# EAGLE library part STM32F405OG-LQFP64 (library RoboJackets-RF)
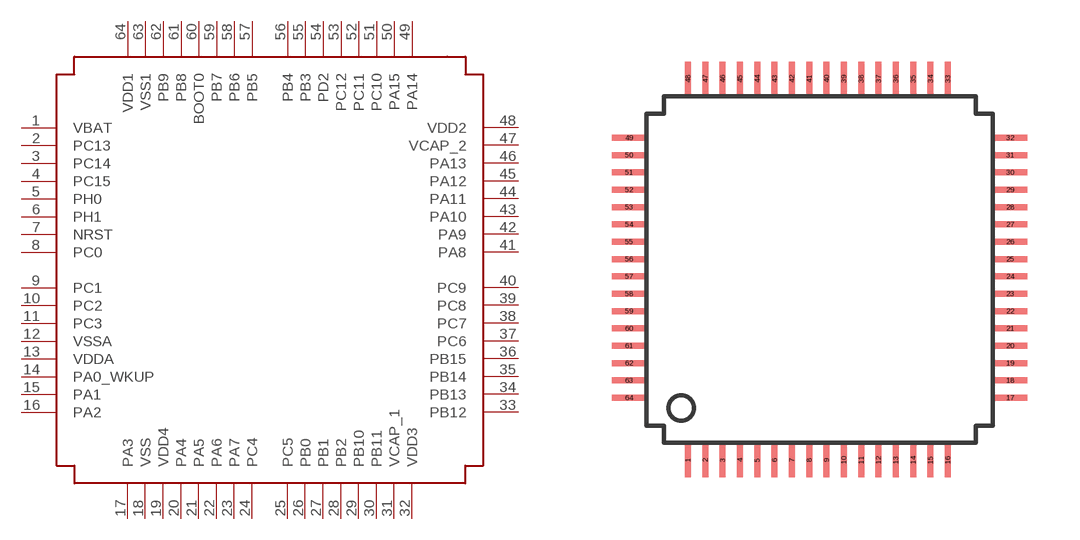
[diagram p8: symbol with the pads of STM32F405OG-LQFP64; footprint STM32F405OG-LQFP64]

Designator prefix -

## STM32F405OG-LQFP64  [STM32F405OG-LQFP64]
1  VBAT
2  PC13
3  PC14
4  PC15
5  PH0
6  PH1
7  NRST
8  PC0
9  PC1
10  PC2
11  PC3
12  VSSA
13  VDDA
14  PA0_WKUP
15  PA1
16  PA2
17  PA3
18  VSS
19  VDD4
20  PA4
21  PA5
22  PA6
23  PA7
24  PC4
25  PC5
26  PB0
27  PB1
28  PB2
29  PB10
30  PB11
31  VCAP_1
32  VDD3
33  PB12
34  PB13
35  PB14
36  PB15
37  PC6
38  PC7
39  PC8
40  PC9
41  PA8
42  PA9
43  PA10
44  PA11
45  PA12
46  PA13
47  VCAP_2
48  VDD2
49  PA14
50  PA15
51  PC10
52  PC11
53  PC12
54  PD2
55  PB3
56  PB4
57  PB5
58  PB6
59  PB7
60  BOOT0
61  PB8
62  PB9
63  VSS1
64  VDD1

## Footprint STM32F405OG-LQFP64 (pad centres in mm)
smd 0.17 x 1: 1 -3.8,-5.5; 2 -3.3,-5.5; 3 -2.8,-5.5; 4 -2.3,-5.5; 5 -1.8,-5.5; 6 -1.3,-5.5; 7 -0.8,-5.5; 8 -0.3,-5.5; 9 0.2,-5.5; 10 0.7,-5.5; 11 1.2,-5.5; 12 1.7,-5.5; 13 2.2,-5.5; 14 2.7,-5.5; 15 3.2,-5.5; 16 3.7,-5.5; 33 3.7,5.5; 34 3.2,5.5; 35 2.7,5.5; 36 2.2,5.5; 37 1.7,5.5; 38 1.2,5.5; 39 0.7,5.5; 40 0.2,5.5; 41 -0.3,5.5; 42 -0.8,5.5; 43 -1.3,5.5; 44 -1.8,5.5; 45 -2.3,5.5; 46 -2.8,5.5; 47 -3.3,5.5; 48 -3.8,5.5
smd 1 x 0.17: 17 5.5,-3.7; 18 5.5,-3.2; 19 5.5,-2.7; 20 5.5,-2.2; 21 5.5,-1.7; 22 5.5,-1.2; 23 5.5,-0.7; 24 5.5,-0.2; 25 5.5,0.3; 26 5.5,0.8; 27 5.5,1.3; 28 5.5,1.8; 29 5.5,2.3; 30 5.5,2.8; 31 5.5,3.3; 32 5.5,3.8; 49 -5.5,3.8; 50 -5.5,3.3; 51 -5.5,2.8; 52 -5.5,2.3; 53 -5.5,1.8; 54 -5.5,1.3; 55 -5.5,0.8; 56 -5.5,0.3; 57 -5.5,-0.2; 58 -5.5,-0.7; 59 -5.5,-1.2; 60 -5.5,-1.7; 61 -5.5,-2.2; 62 -5.5,-2.7; 63 -5.5,-3.2; 64 -5.5,-3.7